# EAGLE library part 2.0''E-PAPER-PANEL(40P-0.5) (library Seeed-OPL-Display)
104990080
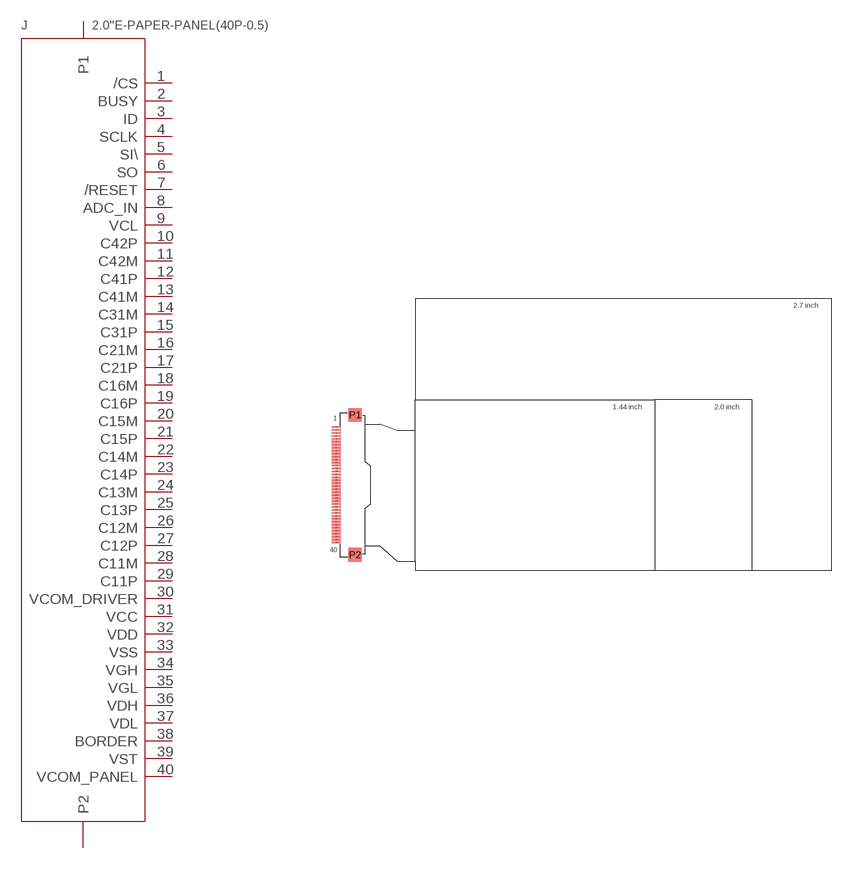
[diagram p2: symbol with the pads of FPC-40P-0.5; footprint FPC-40P-0.5]

Designator prefix J

## 2.0''E-PAPER-PANEL(40P-0.5) (MPN: EG020BS011; VALUE: EG020BS011)  [FPC-40P-0.5]
1  /CS
2  BUSY
3  ID
4  SCLK
5  SI\
6  SO
7  /RESET
8  ADC_IN
9  VCL
10  C42P
11  C42M
12  C41P
13  C41M
14  C31M
15  C31P
16  C21M
17  C21P
18  C16M
19  C16P
20  C15M
21  C15P
22  C14M
23  C14P
24  C13M
25  C13P
26  C12M
27  C12P
28  C11M
29  C11P
30  VCOM_DRIVER
31  VCC
32  VDD
33  VSS
34  VGH
35  VGL
36  VDH
37  VDL
38  BORDER
39  VST
40  VCOM_PANEL
P1  P1
P2  P2

## Footprint FPC-40P-0.5 (pad centres in mm)
smd 1.524 x 0.305: 1 -0.762,9.75; 2 -0.762,9.25; 3 -0.762,8.75; 4 -0.762,8.25; 5 -0.762,7.75; 6 -0.762,7.25; 7 -0.762,6.75; 8 -0.762,6.25; 9 -0.762,5.75; 10 -0.762,5.25; 11 -0.762,4.75; 12 -0.762,4.25; 13 -0.762,3.75; 14 -0.762,3.25; 15 -0.762,2.75; 16 -0.762,2.25; 17 -0.762,1.75; 18 -0.762,1.25; 19 -0.762,0.75; 20 -0.762,0.25; 21 -0.762,-0.25; 22 -0.762,-0.75; 23 -0.762,-1.25; 24 -0.762,-1.75; 25 -0.762,-2.25; 26 -0.762,-2.75; 27 -0.762,-3.25; 28 -0.762,-3.75; 29 -0.762,-4.25; 30 -0.762,-4.75; 31 -0.762,-5.25; 32 -0.762,-5.75; 33 -0.762,-6.25; 34 -0.762,-6.75; 35 -0.762,-7.25; 36 -0.762,-7.75; 37 -0.762,-8.25; 38 -0.762,-8.75; 39 -0.762,-9.25; 40 -0.762,-9.75
smd 2.286 x 2.286: P1 2.413,11.811; P2 2.413,-11.811